# EAGLE library part CMB_RADIO (library custom-connectors)
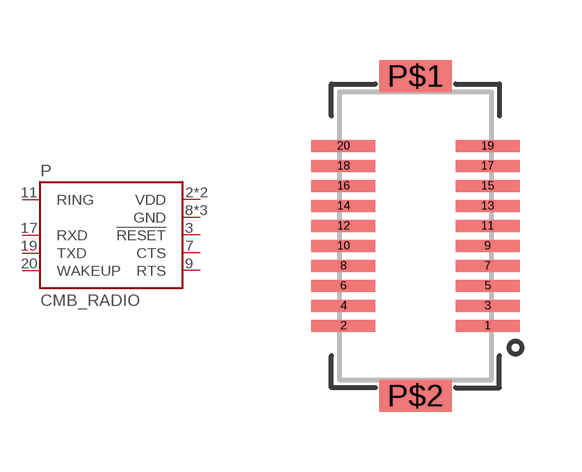
[diagram p27: symbol with the pads of DF12_RECEPTACLE; footprint DF12_RECEPTACLE]

Designator prefix P

## CMB_RADIO  [DF12_RECEPTACLE]
2  VDD
3  !RESET!
4  VDD
7  CTS
8  GND
9  RTS  out
11  RING  pwr
12  GND
15  GND
17  RXD
19  TXD
20  WAKEUP  pwr

## Footprint DF12_RECEPTACLE (pad centres in mm)
smd 1.6 x 0.3: 1 1.8,-2.25; 2 -1.8,-2.25; 3 1.8,-1.75; 4 -1.8,-1.75; 5 1.8,-1.25; 6 -1.8,-1.25; 7 1.8,-0.75; 8 -1.8,-0.75; 9 1.8,-0.25; 10 -1.8,-0.25; 11 1.8,0.25; 12 -1.8,0.25; 13 1.8,0.75; 14 -1.8,0.75; 15 1.8,1.25; 16 -1.8,1.25; 17 1.8,1.75; 18 -1.8,1.75; 19 1.8,2.25; 20 -1.8,2.25
smd 1.8 x 0.8: P$1 0,4; P$2 0,-4